# Altium schematic symbol library Connectors-V.SchLib: 11 symbols
Pins are listed as number, name and electrical type; pins without a type are passive.

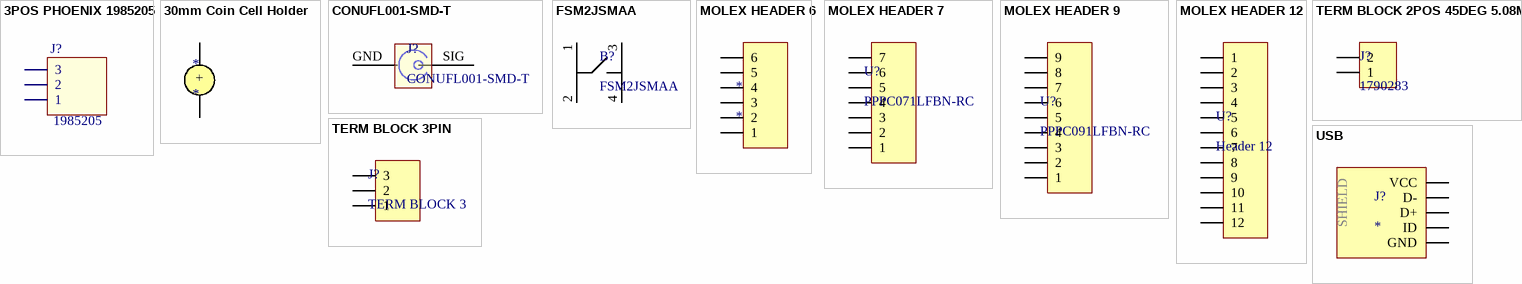
[diagram p0: symbols 3POS PHOENIX 1985205 to USB]

## 3POS PHOENIX 1985205
designator J?, comment 1985205
3POS,THD,TENSION CLAMP,PHOENIX CONTACT
footprint 3POS PHOENIX (3POS,THD,TENSION CLAMP,PHOENIX CONTACT)
pins: 1, 2, 3

## 30mm Coin Cell Holder
designator *
footprint 2997 11.6mm COIN CELL (2997 11.6mm COIN CELL HOLDER KEYSTONE)
pins: 1 +, 2

## CONUFL001-SMD-T
designator J?
uFL Upright
pins: GND, SIG

## FSM2JSMAA
designator B?
Tactile Switch; Supplier Part Number 1: 450-3355-ND; Supplier 1: DigiKey; Supplier 2: Mouser; Supplier Part Number 2: 506-2-1437565-8
pins: 1, 2, 3, 4

## MOLEX HEADER 6
designator *
pins: 1, 2, 3, 4, 5, 6

## MOLEX HEADER 7
designator U?, comment PPPC071LFBN-RC
0.100" Female Header; Manufacturer: Molex; Supplier 1: Digi-Key; Manufacturer Part Number: PPPC071LFBN-RC; Supplier Part Number 1: S7040-ND
footprint 0.100" 7PIN (0.100" FEMALE HEADER)
pins: 1, 2, 3, 4, 5, 6, 7

## MOLEX HEADER 9
designator U?, comment PPPC091LFBN-RC
0.100" Female Header
footprint 0.100" 9PIN (0.100" FEMALE HEADER 9PIN)
pins: 1, 2, 3, 4, 5, 6, 7, 8, 9

## MOLEX HEADER 12
designator U?, comment Header 12
0.100" Female Header
footprint 0.100" 12PIN (0.100" MOLEX HEADER 12PIN)
pins: 1, 2, 3, 4, 5, 6, 7, 8, 9, 10, 11, 12

## TERM BLOCK 2POS 45DEG 5.08MM
designator J?, comment 1790283
5.08mm Spring Cage, Tension Clamp, Pheonix Contact, 2pos, THD
footprint 5.08mm 2pos TermBlock
pins: 1, 2

## TERM BLOCK 3PIN
designator J?, comment TERM BLOCK 3
3.5-mm Pitch, Screw Type; Supplier 1: Allied; Supplier Part Number 1: 70055016
footprint 5mm TERM BLOCK 3PIN (5mm Pitch 3pin)
pins: 1, 2, 3

## USB
designator J?
microUSB Connector
pins: 1 VCC (power), 2 D-, 3 D+, 4 ID, 5 GND (power)
text: SHIELD